# EAGLE library part EYSGCNZWY (library mbed-HDK-MF-NORDIC)
nRF51822 BLUETOOTH based module
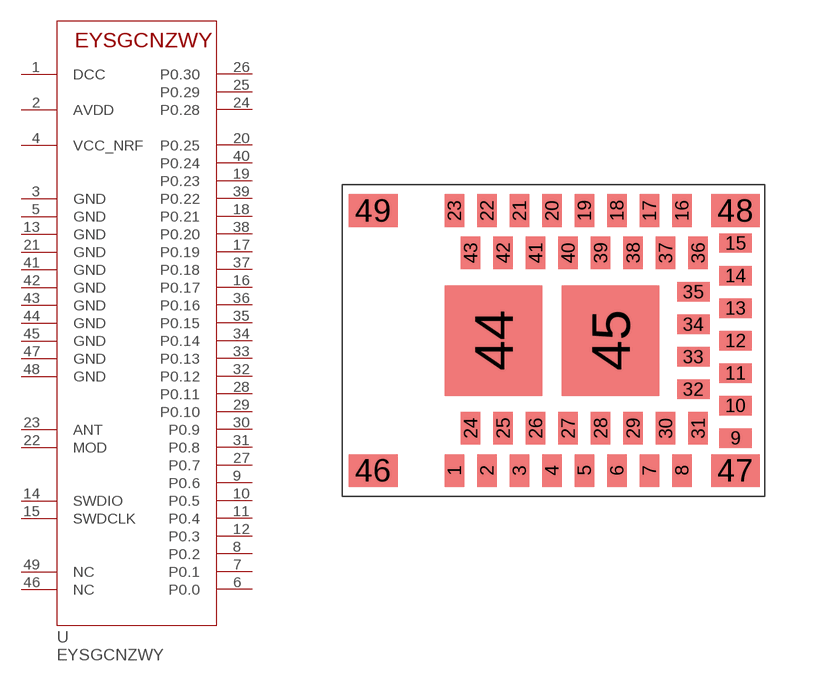
[diagram p1: symbol with the pads of EYSGCNZWY; footprint EYSGCNZWY]

Designator prefix U

## EYSGCNZWY (MF: Taiyo Yuden; MFN: EYSGCNZWY; OC-DIGIKEY: 587-4369-1-ND; OC-MOUSER: 963-EYSGCNZWY; OC-NEWARK: 95Y0806)  [EYSGCNZWY]
1  DCC
2  AVDD
3  GND
4  VCC_NRF
5  GND
6  P0.0
7  P0.1
8  P0.2
9  P0.6
10  P0.5
11  P0.4
12  P0.3
13  GND
14  SWDIO
15  SWDCLK
16  P0.17
17  P0.19
18  P0.21
19  P0.23
20  P0.25
21  GND
22  MOD
23  ANT
24  P0.28
25  P0.29
26  P0.30
27  P0.7
28  P0.11
29  P0.10
30  P0.9
31  P0.8
32  P0.12
33  P0.13
34  P0.14
35  P0.15
36  P0.16
37  P0.18
38  P0.20
39  P0.22
40  P0.24
41  GND
42  GND
43  GND
44  GND
45  GND
46  NC
47  GND
48  GND
49  NC

## Footprint EYSGCNZWY (pad centres in mm)
smd 0.6 x 1: 1 -3,-4; 2 -2,-4; 3 -1,-4; 4 0,-4; 5 1,-4; 6 2,-4; 7 3,-4; 8 4,-4; 16 4,4; 17 3,4; 18 2,4; 19 1,4; 20 0,4; 21 -1,4; 22 -2,4; 23 -3,4; 24 -2.5,-2.7; 25 -1.5,-2.7; 26 -0.5,-2.7; 27 0.5,-2.7; 28 1.5,-2.7; 29 2.5,-2.7; 30 3.5,-2.7; 31 4.5,-2.7; 36 4.5,2.7; 37 3.5,2.7; 38 2.5,2.7; 39 1.5,2.7; 40 0.5,2.7; 41 -0.5,2.7; 42 -1.5,2.7; 43 -2.5,2.7
smd 1 x 0.6: 9 5.65,-3; 10 5.65,-2; 11 5.65,-1; 12 5.65,0; 13 5.65,1; 14 5.65,2; 15 5.65,3; 32 4.35,-1.5; 33 4.35,-0.5; 34 4.35,0.5; 35 4.35,1.5
smd 3 x 3.4: 44 -1.8,0; 45 1.8,0
smd 1.5 x 1: 46 -5.5,-4; 47 5.65,-4; 48 5.65,4; 49 -5.5,4